# Altium integrated library Holtek Semiconductor Communication.IntLib: 22 symbols
Pins are listed as number, name and electrical type; pins without a type are passive.

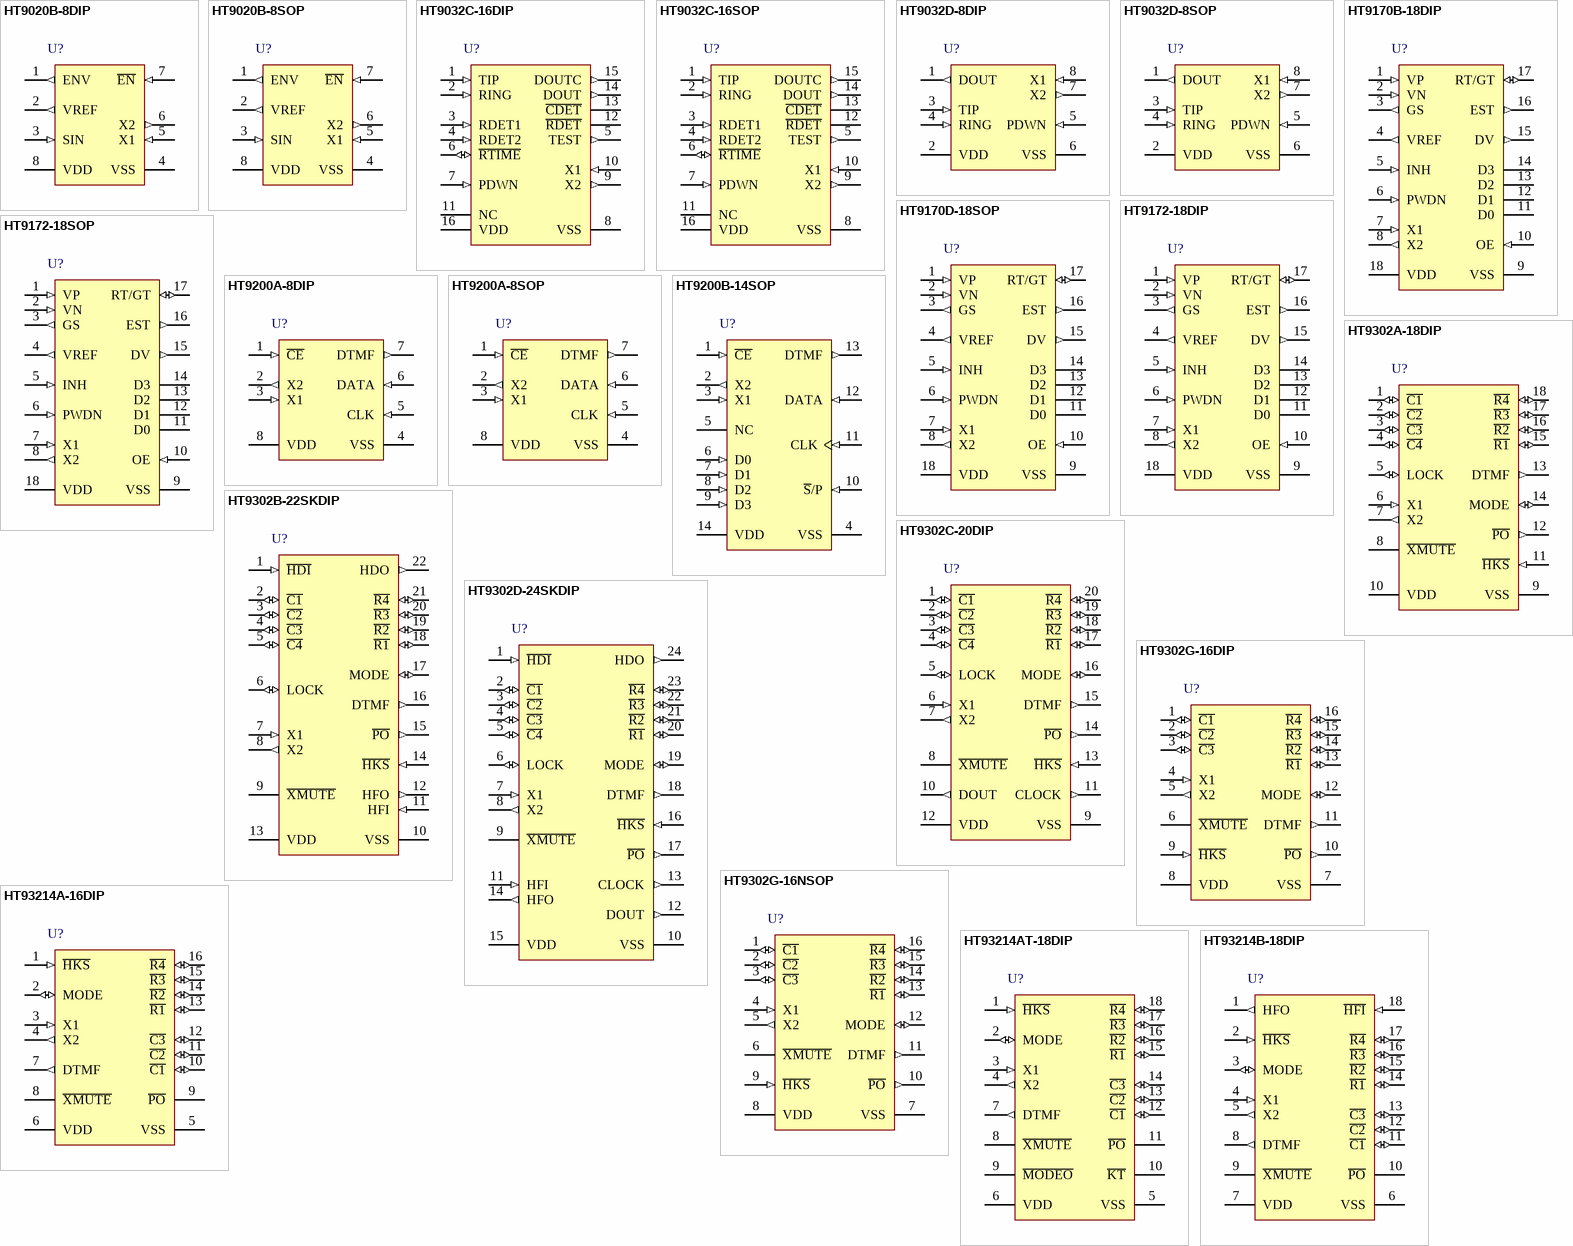
[diagram p0: symbols HT9020B-8DIP to HT93214B-18DIP]

## HT9020B-8DIP
designator U?
Call Progress Tone Detector, 8-Pin DIP; DatasheetVersion: Rev1.31, Feb-2009; PackageVersion: 25/05/2010; PackageReference: 8DIP; PackageDescription: 8-Pin, Dual In-line Package, 300mil Width, Pitch 2.54 mm; ComponentLink1Description: Manufacturer URL; ComponentLink1URL: http://www.holtek.com/; ComponentLink2Description: Datasheet; ComponentLink2URL: http://www.holtek.com/pdf/comm/9020v131.pdf; ComponentLink3Description: Package Specification; ComponentLink3URL: http://www.holtek.com/english/literature/package.pdf
footprint 8DIP (DIP, 8-Leads, Row Spacing 7.62mm, Pitch 2.54mm, Body 9.3x6.4mm)
pins: 1 ENV (out), 2 VREF (out), 3 SIN (in), 4 VSS (power), 5 X1 (in), 6 X2 (out), 7 ~{EN} (in), 8 VDD (power)

## HT9020B-8SOP
designator U?
Call Progress Tone Detector, 8-Pin SOP; DatasheetVersion: Rev1.31, Feb-2009; PackageVersion: 25/05/2010; PackageReference: 8SOP; PackageDescription: 8-Pin Small Outline Package, 150mil Wide, 1.27 mm Pitch; Code_JEDEC: MS-012; Code_IPC: SOIC127P600-8; ComponentLink1Description: Manufacturer URL; ComponentLink1URL: http://www.holtek.com/; ComponentLink2Description: Datasheet; ComponentLink2URL: http://www.holtek.com/pdf/comm/9020v131.pdf; ComponentLink3Description: Package Specification; ComponentLink3URL: http://www.holtek.com/english/literature/package.pdf
footprint 8SOP_N (SOIC, 8-Leads, Body 4.9x3.9mm, Pitch 1.27mm, IPC Medium Density)
footprint 8SOP_L (SOIC, 8-Leads, Body 4.9x3.9mm, Pitch 1.27mm, IPC High Density)
footprint 8SOP_M (SOIC, 8-Leads, Body 4.9x3.9mm, Pitch 1.27mm, IPC Low Density)
pins: 1 ENV (out), 2 VREF (out), 3 SIN (in), 4 VSS (power), 5 X1 (in), 6 X2 (out), 7 ~{EN} (in), 8 VDD (power)

## HT9032C-16DIP
designator U?
Calling Line Identification Receiver, 16-Pin DIP; DatasheetVersion: Rev1.41, Feb-2009; PackageVersion: 25/05/2010; PackageReference: 16DIP; PackageDescription: 16-Pin, Dual In-line Package, 300mil Width, Pitch 2.54 mm, Full Lead; Code_JEDEC: MS-001D; ComponentLink1Description: Manufacturer URL; ComponentLink1URL: http://www.holtek.com/; ComponentLink2Description: Datasheet; ComponentLink2URL: http://www.holtek.com/pdf/comm/9032v141.pdf; ComponentLink3Description: Package Specification; ComponentLink3URL: http://www.holtek.com/english/literature/package.pdf
footprint 16DIP (DIP, 16-Leads, Row Spacing 7.62mm, Pitch 2.54mm, Body 21.1x6.6mm)
pins: 1 TIP (in), 2 RING (in), 3 RDET1 (in), 4 RDET2 (in), 5 TEST (out), 6 ~{RTIME} (io), 7 PDWN (in), 8 VSS (power), 9 X2 (out), 10 X1 (in), 11 NC, 12 ~{RDET} (oc), 13 ~{CDET} (oc), 14 DOUT (out), 15 DOUTC (out), 16 VDD (power)

## HT9032C-16SOP
designator U?
Calling Line Identification Receiver, 16-Pin SOP; DatasheetVersion: Rev1.41, Feb-2009; PackageVersion: 25/05/2010; PackageReference: 16SOP; PackageDescription: 16-Pin Small Outline Package 300mil Wide, 1.27 mm Pitch; Code_JEDEC: MS-013; Code_IPC: SOIC127P1030-16; ComponentLink1Description: Manufacturer URL; ComponentLink1URL: http://www.holtek.com/; ComponentLink2Description: Datasheet; ComponentLink2URL: http://www.holtek.com/pdf/comm/9032v141.pdf; ComponentLink3Description: Package Specification; ComponentLink3URL: http://www.holtek.com/english/literature/package.pdf
footprint 16SOP_N (SOIC, 16-Leads, Body 10.3x7.1mm, Pitch 1.27mm, IPC Medium Density)
footprint 16SOP_L (SOIC, 16-Leads, Body 10.3x7.1mm, Pitch 1.27mm, IPC High Density)
footprint 16SOP_M (SOIC, 16-Leads, Body 10.3x7.1mm, Pitch 1.27mm, IPC Low Density)
pins: 1 TIP (in), 2 RING (in), 3 RDET1 (in), 4 RDET2 (in), 5 TEST (out), 6 ~{RTIME} (io), 7 PDWN (in), 8 VSS (power), 9 X2 (out), 10 X1 (in), 11 NC, 12 ~{RDET} (oc), 13 ~{CDET} (oc), 14 DOUT (out), 15 DOUTC (out), 16 VDD (power)

## HT9032D-8DIP
designator U?
Calling Line Identification Receiver, 8-Pin DIP; DatasheetVersion: Rev1.41, Feb-2009; PackageVersion: 25/05/2010; PackageReference: 8DIP; PackageDescription: 8-Pin, Dual In-line Package, 300mil Width, Pitch 2.54 mm; ComponentLink1Description: Manufacturer URL; ComponentLink1URL: http://www.holtek.com/; ComponentLink2Description: Datasheet; ComponentLink2URL: http://www.holtek.com/pdf/comm/9032v141.pdf; ComponentLink3Description: Package Specification; ComponentLink3URL: http://www.holtek.com/english/literature/package.pdf
footprint 8DIP (DIP, 8-Leads, Row Spacing 7.62mm, Pitch 2.54mm, Body 9.3x6.4mm)
pins: 1 DOUT (out), 2 VDD (power), 3 TIP (in), 4 RING (in), 5 PDWN (in), 6 VSS (power), 7 X2 (out), 8 X1 (in)

## HT9032D-8SOP
designator U?
Calling Line Identification Receiver, 8-Pin SOP; DatasheetVersion: Rev1.41, Feb-2009; PackageVersion: 25/05/2010; PackageReference: 8SOP; PackageDescription: 8-Pin Small Outline Package, 150mil Wide, 1.27 mm Pitch; Code_JEDEC: MS-012; Code_IPC: SOIC127P600-8; ComponentLink1Description: Manufacturer URL; ComponentLink1URL: http://www.holtek.com/; ComponentLink2Description: Datasheet; ComponentLink2URL: http://www.holtek.com/pdf/comm/9032v141.pdf; ComponentLink3Description: Package Specification; ComponentLink3URL: http://www.holtek.com/english/literature/package.pdf
footprint 8SOP_N (SOIC, 8-Leads, Body 4.9x3.9mm, Pitch 1.27mm, IPC Medium Density)
footprint 8SOP_L (SOIC, 8-Leads, Body 4.9x3.9mm, Pitch 1.27mm, IPC High Density)
footprint 8SOP_M (SOIC, 8-Leads, Body 4.9x3.9mm, Pitch 1.27mm, IPC Low Density)
pins: 1 DOUT (out), 2 VDD (power), 3 TIP (in), 4 RING (in), 5 PDWN (in), 6 VSS (power), 7 X2 (out), 8 X1 (in)

## HT9170B-18DIP
designator U?
DTMF Receiver, 18-Pin DIP; DatasheetVersion: Rev1.11, Feb-2009; PackageVersion: 25/05/2010; PackageReference: 18DIP; PackageDescription: 18-Pin, Dual In-line Package, 300mil Width, Pitch 2.54 mm, Full Lead; Code_JEDEC: MS-001D; ComponentLink1Description: Manufacturer URL; ComponentLink1URL: http://www.holtek.com/; ComponentLink2Description: Datasheet; ComponentLink2URL: http://www.holtek.com/pdf/comm/9170v111.pdf; ComponentLink3Description: Package Specification; ComponentLink3URL: http://www.holtek.com/english/literature/package.pdf
footprint 18DIP (DIP, 18-Leads, Row Spacing 7.62mm, Pitch 2.54mm, Body 22.9x6.6mm)
pins: 1 VP (in), 2 VN (in), 3 GS (out), 4 VREF (out), 5 INH (in), 6 PWDN (in), 7 X1 (in), 8 X2 (out), 9 VSS (power), 10 OE (in), 11 D0 (hiz), 12 D1 (hiz), 13 D2 (hiz), 14 D3 (hiz), 15 DV (out), 16 EST (out), 17 RT/GT (io), 18 VDD (power)

## HT9170D-18SOP
designator U?
DTMF Receiver, 18-Pin SOP; DatasheetVersion: Rev1.11, Feb-2009; PackageVersion: 25/05/2010; PackageReference: 18SOP; PackageDescription: 18-Pin Small Outline Package, 300mil Wide, 1.27 mm Pitch; Code_JEDEC: MS-013; ComponentLink1Description: Manufacturer URL; ComponentLink1URL: http://www.holtek.com/; ComponentLink2Description: Datasheet; ComponentLink2URL: http://www.holtek.com/pdf/comm/9170v111.pdf; ComponentLink3Description: Package Specification; ComponentLink3URL: http://www.holtek.com/english/literature/package.pdf
footprint 18SOP_N (SOIC, 18-Leads, Body 11.6x7.1mm, Pitch 1.27mm, IPC Medium Density)
footprint 18SOP_L (SOIC, 18-Leads, Body 11.6x7.1mm, Pitch 1.27mm, IPC High Density)
footprint 18SOP_M (SOIC, 18-Leads, Body 11.6x7.1mm, Pitch 1.27mm, IPC Low Density)
pins: 1 VP (in), 2 VN (in), 3 GS (out), 4 VREF (out), 5 INH (in), 6 PWDN (in), 7 X1 (in), 8 X2 (out), 9 VSS (power), 10 OE (in), 11 D0 (hiz), 12 D1 (hiz), 13 D2 (hiz), 14 D3 (hiz), 15 DV (out), 16 EST (out), 17 RT/GT (io), 18 VDD (power)

## HT9172-18DIP
designator U?
DTMF Receiver, 18-Pin DIP; DatasheetVersion: Rev1.01, Feb-2009; PackageVersion: 25/05/2010; PackageReference: 18DIP; PackageDescription: 18-Pin, Dual In-line Package, 300mil Width, Pitch 2.54 mm, Full Lead; Code_JEDEC: MS-001D; ComponentLink1Description: Manufacturer URL; ComponentLink1URL: http://www.holtek.com/; ComponentLink2Description: Datasheet; ComponentLink2URL: http://www.holtek.com/pdf/comm/9172v101.pdf; ComponentLink3Description: Package Specification; ComponentLink3URL: http://www.holtek.com/english/literature/package.pdf
footprint 18DIP (DIP, 18-Leads, Row Spacing 7.62mm, Pitch 2.54mm, Body 22.9x6.6mm)
pins: 1 VP (in), 2 VN (in), 3 GS (out), 4 VREF (out), 5 INH (in), 6 PWDN (in), 7 X1 (in), 8 X2 (out), 9 VSS (power), 10 OE (in), 11 D0 (hiz), 12 D1 (hiz), 13 D2 (hiz), 14 D3 (hiz), 15 DV (out), 16 EST (out), 17 RT/GT (io), 18 VDD (power)

## HT9172-18SOP
designator U?
DTMF Receiver, 18-Pin SOP; DatasheetVersion: Rev1.01, Feb-2009; PackageVersion: 25/05/2010; PackageReference: 18SOP; PackageDescription: 18-Pin Small Outline Package, 300mil Wide, 1.27 mm Pitch; Code_JEDEC: MS-013; ComponentLink1Description: Manufacturer URL; ComponentLink1URL: http://www.holtek.com/; ComponentLink2Description: Datasheet; ComponentLink2URL: http://www.holtek.com/pdf/comm/9172v101.pdf; ComponentLink3Description: Package Specification; ComponentLink3URL: http://www.holtek.com/english/literature/package.pdf
footprint 18SOP_N (SOIC, 18-Leads, Body 11.6x7.1mm, Pitch 1.27mm, IPC Medium Density)
footprint 18SOP_L (SOIC, 18-Leads, Body 11.6x7.1mm, Pitch 1.27mm, IPC High Density)
footprint 18SOP_M (SOIC, 18-Leads, Body 11.6x7.1mm, Pitch 1.27mm, IPC Low Density)
pins: 1 VP (in), 2 VN (in), 3 GS (out), 4 VREF (out), 5 INH (in), 6 PWDN (in), 7 X1 (in), 8 X2 (out), 9 VSS (power), 10 OE (in), 11 D0 (hiz), 12 D1 (hiz), 13 D2 (hiz), 14 D3 (hiz), 15 DV (out), 16 EST (out), 17 RT/GT (io), 18 VDD (power)

## HT9200A-8DIP
designator U?
DTMF Generators, 8-Pin DIP; DatasheetVersion: Rev1.41, Feb-2009; PackageVersion: 25/05/2010; PackageReference: 8DIP; PackageDescription: 8-Pin, Dual In-line Package, 300mil Width, Pitch 2.54 mm; ComponentLink1Description: Manufacturer URL; ComponentLink1URL: http://www.holtek.com/; ComponentLink2Description: Datasheet; ComponentLink2URL: http://www.holtek.com/pdf/comm/9200v141.pdf; ComponentLink3Description: Package Specification; ComponentLink3URL: http://www.holtek.com/english/literature/package.pdf
footprint 8DIP (DIP, 8-Leads, Row Spacing 7.62mm, Pitch 2.54mm, Body 9.3x6.4mm)
pins: 1 ~{CE} (in), 2 X2 (out), 3 X1 (in), 4 VSS (power), 5 CLK (in), 6 DATA (in), 7 DTMF (out), 8 VDD (power)

## HT9200A-8SOP
designator U?
DTMF Generators, 8-Pin SOP; DatasheetVersion: Rev1.41, Feb-2009; PackageVersion: 25/05/2010; PackageReference: 8SOP; PackageDescription: 8-Pin Small Outline Package, 150mil Wide, 1.27 mm Pitch; Code_JEDEC: MS-012; Code_IPC: SOIC127P600-8; ComponentLink1Description: Manufacturer URL; ComponentLink1URL: http://www.holtek.com/; ComponentLink2Description: Datasheet; ComponentLink2URL: http://www.holtek.com/pdf/comm/9200v141.pdf; ComponentLink3Description: Package Specification; ComponentLink3URL: http://www.holtek.com/english/literature/package.pdf
footprint 8SOP_N (SOIC, 8-Leads, Body 4.9x3.9mm, Pitch 1.27mm, IPC Medium Density)
footprint 8SOP_L (SOIC, 8-Leads, Body 4.9x3.9mm, Pitch 1.27mm, IPC High Density)
footprint 8SOP_M (SOIC, 8-Leads, Body 4.9x3.9mm, Pitch 1.27mm, IPC Low Density)
pins: 1 ~{CE} (in), 2 X2 (out), 3 X1 (in), 4 VSS (power), 5 CLK (in), 6 DATA (in), 7 DTMF (out), 8 VDD (power)

## HT9200B-14SOP
designator U?
DTMF Generators, 14-Pin SOP; DatasheetVersion: Rev1.41, Feb-2009; PackageVersion: 25/05/2010; PackageReference: 14SOP; PackageDescription: 14-Pin Small Outline Package, 150mil Wide, 1.27 mm Pitch; Code_JEDEC: MS-012; Code_IPC: SOIC127P600-14; ComponentLink1Description: Manufacturer URL; ComponentLink1URL: http://www.holtek.com/; ComponentLink2Description: Datasheet; ComponentLink2URL: http://www.holtek.com/pdf/comm/9200v141.pdf; ComponentLink3Description: Package Specification; ComponentLink3URL: http://www.holtek.com/english/literature/package.pdf
footprint 14SOP_N (SOIC, 14-Leads, Body 8.7x3.9mm, Pitch 1.27mm, IPC Medium Density)
footprint 14SOP_L (SOIC, 14-Leads, Body 8.7x3.9mm, Pitch 1.27mm, IPC High Density)
footprint 14SOP_M (SOIC, 14-Leads, Body 8.7x3.9mm, Pitch 1.27mm, IPC Low Density)
pins: 1 ~{CE} (in), 2 X2 (out), 3 X1 (in), 4 VSS (power), 5 NC, 6 D0 (in), 7 D1 (in), 8 D2 (in), 9 D3 (in), 10 ~{S}/P (in), 11 CLK (in), 12 DATA (in), 13 DTMF (out), 14 VDD (power)

## HT9302A-18DIP
designator U?
2 Memory Tone/Pulse Dialer, 18-Pin DIP; DatasheetVersion: Rev1.30, May-2009; PackageVersion: 25/05/2010; PackageReference: 18DIP; PackageDescription: 18-Pin, Dual In-line Package, 300mil Width, Pitch 2.54 mm, Full Lead; Code_JEDEC: MS-001D; ComponentLink1Description: Manufacturer URL; ComponentLink1URL: http://www.holtek.com/; ComponentLink2Description: Datasheet; ComponentLink2URL: http://www.holtek.com/pdf/comm/9302v130.pdf; ComponentLink3Description: Package Specification; ComponentLink3URL: http://www.holtek.com/english/literature/package.pdf
footprint 18DIP (DIP, 18-Leads, Row Spacing 7.62mm, Pitch 2.54mm, Body 22.9x6.6mm)
pins: 1 ~{C1} (io), 2 ~{C2} (io), 3 ~{C3} (io), 4 ~{C4} (io), 5 LOCK (io), 6 X1 (in), 7 X2 (out), 8 ~{XMUTE} (oc), 9 VSS (power), 10 VDD (power), 11 ~{HKS} (in), 12 ~{PO} (out), 13 DTMF (out), 14 MODE (io), 15 ~{R1} (io), 16 ~{R2} (io), 17 ~{R3} (io), 18 ~{R4} (io)

## HT9302B-22SKDIP
designator U?
2 Memory Tone/Pulse Dialer, 22-Pin SKDIP; DatasheetVersion: Rev1.30, May-2009; PackageVersion: 25/05/2010; PackageReference: 22SKDIP; PackageDescription: 22-Pin, Skinny Dual In-line Package, 300mil Width, Pitch 2.54 mm; ComponentLink1Description: Manufacturer URL; ComponentLink1URL: http://www.holtek.com/; ComponentLink2Description: Datasheet; ComponentLink2URL: http://www.holtek.com/pdf/comm/9302v130.pdf; ComponentLink3Description: Package Specification; ComponentLink3URL: http://www.holtek.com/english/literature/package.pdf
footprint 22SKDIP (DIP, 22-Leads, Row Spacing 7.62mm, Pitch 2.54mm, Body 27.8x6.6mm)
pins: 1 ~{HDI} (in), 2 ~{C1} (io), 3 ~{C2} (io), 4 ~{C3} (io), 5 ~{C4} (io), 6 LOCK (io), 7 X1 (in), 8 X2 (out), 9 ~{XMUTE} (oc), 10 VSS (power), 11 HFI (in), 12 HFO (out), 13 VDD (power), 14 ~{HKS} (in), 15 ~{PO} (out), 16 DTMF (out), 17 MODE (io), 18 ~{R1} (io), 19 ~{R2} (io), 20 ~{R3} (io), 21 ~{R4} (io), 22 HDO (out)

## HT9302C-20DIP
designator U?
2 Memory Tone/Pulse Dialer, 20-Pin DIP; DatasheetVersion: Rev1.30, May-2009; PackageVersion: 25/05/2010; PackageReference: 20DIP; PackageDescription: 20-Pin, Dual In-line Package, 300mil Width, Pitch 2.54 mm, Full Lead; Code_JEDEC: MO-095A; ComponentLink1Description: Manufacturer URL; ComponentLink1URL: http://www.holtek.com/; ComponentLink2Description: Datasheet; ComponentLink2URL: http://www.holtek.com/pdf/comm/9302v130.pdf; ComponentLink3Description: Package Specification; ComponentLink3URL: http://www.holtek.com/english/literature/package.pdf
footprint 20DIP (DIP, 20-Leads, Row Spacing 7.62mm, Pitch 2.54mm, Body 24.5x7.2mm)
pins: 1 ~{C1} (io), 2 ~{C2} (io), 3 ~{C3} (io), 4 ~{C4} (io), 5 LOCK (io), 6 X1 (in), 7 X2 (out), 8 ~{XMUTE} (oc), 9 VSS (power), 10 DOUT (out), 11 CLOCK (out), 12 VDD (power), 13 ~{HKS} (in), 14 ~{PO} (out), 15 DTMF (out), 16 MODE (io), 17 ~{R1} (io), 18 ~{R2} (io), 19 ~{R3} (io), 20 ~{R4} (io)

## HT9302D-24SKDIP
designator U?
2 Memory Tone/Pulse Dialer, 24-Pin SKDIP; DatasheetVersion: Rev1.30, May-2009; PackageVersion: 25/05/2010; PackageReference: 24SKDIP; PackageDescription: 24-Pin, Skinny Dual In-line Package, 300mil Width, Pitch 2.54 mm, Full Lead (MS-001D); Code_JEDEC: MS-001; ComponentLink1Description: Manufacturer URL; ComponentLink1URL: http://www.holtek.com/; ComponentLink2Description: Datasheet; ComponentLink2URL: http://www.holtek.com/pdf/comm/9302v130.pdf; ComponentLink3Description: Package Specification; ComponentLink3URL: http://www.holtek.com/english/literature/package.pdf
footprint 24SKDIP (DIP, 24-Leads, Row Spacing 7.62mm, Pitch 2.54mm, Body 31.9x6.6mm)
pins: 1 ~{HDI} (in), 2 ~{C1} (io), 3 ~{C2} (io), 4 ~{C3} (io), 5 ~{C4} (io), 6 LOCK (io), 7 X1 (in), 8 X2 (out), 9 ~{XMUTE} (oc), 10 VSS (power), 11 HFI (in), 12 DOUT (out), 13 CLOCK (out), 14 HFO (out), 15 VDD (power), 16 ~{HKS} (in), 17 ~{PO} (out), 18 DTMF (out), 19 MODE (io), 20 ~{R1} (io), 21 ~{R2} (io), 22 ~{R3} (io), 23 ~{R4} (io), 24 HDO (out)

## HT9302G-16DIP
designator U?
1 Memory Tone/Pulse Dialer, 16-Pin DIP; DatasheetVersion: Rev1.30, May-2009; PackageVersion: 25/05/2010; PackageReference: 16DIP; PackageDescription: 16-Pin, Dual In-line Package, 300mil Width, Pitch 2.54 mm, Full Lead; Code_JEDEC: MS-001D; ComponentLink1Description: Manufacturer URL; ComponentLink1URL: http://www.holtek.com/; ComponentLink2Description: Datasheet; ComponentLink2URL: http://www.holtek.com/pdf/comm/9302v130.pdf; ComponentLink3Description: Package Specification; ComponentLink3URL: http://www.holtek.com/english/literature/package.pdf
footprint 16DIP (DIP, 16-Leads, Row Spacing 7.62mm, Pitch 2.54mm, Body 21.1x6.6mm)
pins: 1 ~{C1} (io), 2 ~{C2} (io), 3 ~{C3} (io), 4 X1 (in), 5 X2 (out), 6 ~{XMUTE} (oc), 7 VSS (power), 8 VDD (power), 9 ~{HKS} (in), 10 ~{PO} (out), 11 DTMF (out), 12 MODE (io), 13 ~{R1} (io), 14 ~{R2} (io), 15 ~{R3} (io), 16 ~{R4} (io)

## HT9302G-16NSOP
designator U?
1 Memory Tone/Pulse Dialer, 16-Pin NSOP; DatasheetVersion: Rev1.30, May-2009; PackageVersion: 25/05/2010; PackageReference: 16NSOP; PackageDescription: 16-Pin Narrow Small Outline Package, 150mil Wide, 1.27 mm Pitch; ComponentLink1Description: Manufacturer URL; ComponentLink1URL: http://www.holtek.com/; ComponentLink2Description: Datasheet; ComponentLink2URL: http://www.holtek.com/pdf/comm/9302v130.pdf; ComponentLink3Description: Package Specification; ComponentLink3URL: http://www.holtek.com/english/literature/package.pdf
footprint 16NSOP_N (SOIC, 16-Leads, Body 10.01x3.9mm, Pitch 1.27mm, IPC Medium Density)
footprint 16NSOP_L (SOIC, 16-Leads, Body 10.01x3.9mm, Pitch 1.27mm, IPC High Density)
footprint 16NSOP_M (SOIC, 16-Leads, Body 10.01x3.9mm, Pitch 1.27mm, IPC Low Density)
pins: 1 ~{C1} (io), 2 ~{C2} (io), 3 ~{C3} (io), 4 X1 (in), 5 X2 (out), 6 ~{XMUTE} (oc), 7 VSS (power), 8 VDD (power), 9 ~{HKS} (in), 10 ~{PO} (out), 11 DTMF (out), 12 MODE (io), 13 ~{R1} (io), 14 ~{R2} (io), 15 ~{R3} (io), 16 ~{R4} (io)

## HT93214A-16DIP
designator U?
1 Memory Tone/Pulse Dialer, Minimum flash time=300ms, 16-Pin DIP; DatasheetVersion: Rev1.11, Feb-2009; PackageVersion: 25/05/2010; PackageReference: 16DIP; PackageDescription: 16-Pin, Dual In-line Package, 300mil Width, Pitch 2.54 mm, Full Lead; Code_JEDEC: MS-001D; ComponentLink1Description: Manufacturer URL; ComponentLink1URL: http://www.holtek.com/; ComponentLink2Description: Datasheet; ComponentLink2URL: http://www.holtek.com/pdf/comm/93214v120.pdf; ComponentLink3Description: Package Specification; ComponentLink3URL: http://www.holtek.com/english/literature/package.pdf
footprint 16DIP (DIP, 16-Leads, Row Spacing 7.62mm, Pitch 2.54mm, Body 21.1x6.6mm)
pins: 1 ~{HKS} (in), 2 MODE (io), 3 X1 (in), 4 X2 (out), 5 VSS (power), 6 VDD (power), 7 DTMF (out), 8 ~{XMUTE} (oc), 9 ~{PO} (oc), 10 ~{C1} (io), 11 ~{C2} (io), 12 ~{C3} (io), 13 ~{R1} (io), 14 ~{R2} (io), 15 ~{R3} (io), 16 ~{R4} (io)

## HT93214AT-18DIP
designator U?
1 Memory Tone/Pulse Dialer, Minimum flash time=300ms, 18-Pin DIP; DatasheetVersion: Rev1.11, Feb-2009; PackageVersion: 25/05/2010; PackageReference: 18DIP; PackageDescription: 18-Pin, Dual In-line Package, 300mil Width, Pitch 2.54 mm, Full Lead; Code_JEDEC: MS-001D; ComponentLink1Description: Manufacturer URL; ComponentLink1URL: http://www.holtek.com/; ComponentLink2Description: Datasheet; ComponentLink2URL: http://www.holtek.com/pdf/comm/93214v120.pdf; ComponentLink3Description: Package Specification; ComponentLink3URL: http://www.holtek.com/english/literature/package.pdf
footprint 18DIP (DIP, 18-Leads, Row Spacing 7.62mm, Pitch 2.54mm, Body 22.9x6.6mm)
pins: 1 ~{HKS} (in), 2 MODE (io), 3 X1 (in), 4 X2 (out), 5 VSS (power), 6 VDD (power), 7 DTMF (out), 8 ~{XMUTE} (oc), 9 ~{MODEO} (oc), 10 ~{KT} (oc), 11 ~{PO} (oc), 12 ~{C1} (io), 13 ~{C2} (io), 14 ~{C3} (io), 15 ~{R1} (io), 16 ~{R2} (io), 17 ~{R3} (io), 18 ~{R4} (io)

## HT93214B-18DIP
designator U?
1 Memory Tone/Pulse Dialer, Minimum flash time=300ms, 18-Pin DIP; DatasheetVersion: Rev1.11, Feb-2009; PackageVersion: 25/05/2010; PackageReference: 18DIP; PackageDescription: 18-Pin, Dual In-line Package, 300mil Width, Pitch 2.54 mm, Full Lead; Code_JEDEC: MS-001D; ComponentLink1Description: Manufacturer URL; ComponentLink1URL: http://www.holtek.com/; ComponentLink2Description: Datasheet; ComponentLink2URL: http://www.holtek.com/pdf/comm/93214v120.pdf; ComponentLink3Description: Package Specification; ComponentLink3URL: http://www.holtek.com/english/literature/package.pdf
footprint 18DIP (DIP, 18-Leads, Row Spacing 7.62mm, Pitch 2.54mm, Body 22.9x6.6mm)
pins: 1 HFO (out), 2 ~{HKS} (in), 3 MODE (io), 4 X1 (in), 5 X2 (out), 6 VSS (power), 7 VDD (power), 8 DTMF (out), 9 ~{XMUTE} (oc), 10 ~{PO} (oc), 11 ~{C1} (io), 12 ~{C2} (io), 13 ~{C3} (io), 14 ~{R1} (io), 15 ~{R2} (io), 16 ~{R3} (io), 17 ~{R4} (io), 18 ~{HFI} (in)